# Altium integrated library Microchip SST Flash.IntLib: 291 symbols (part 26 of 37)
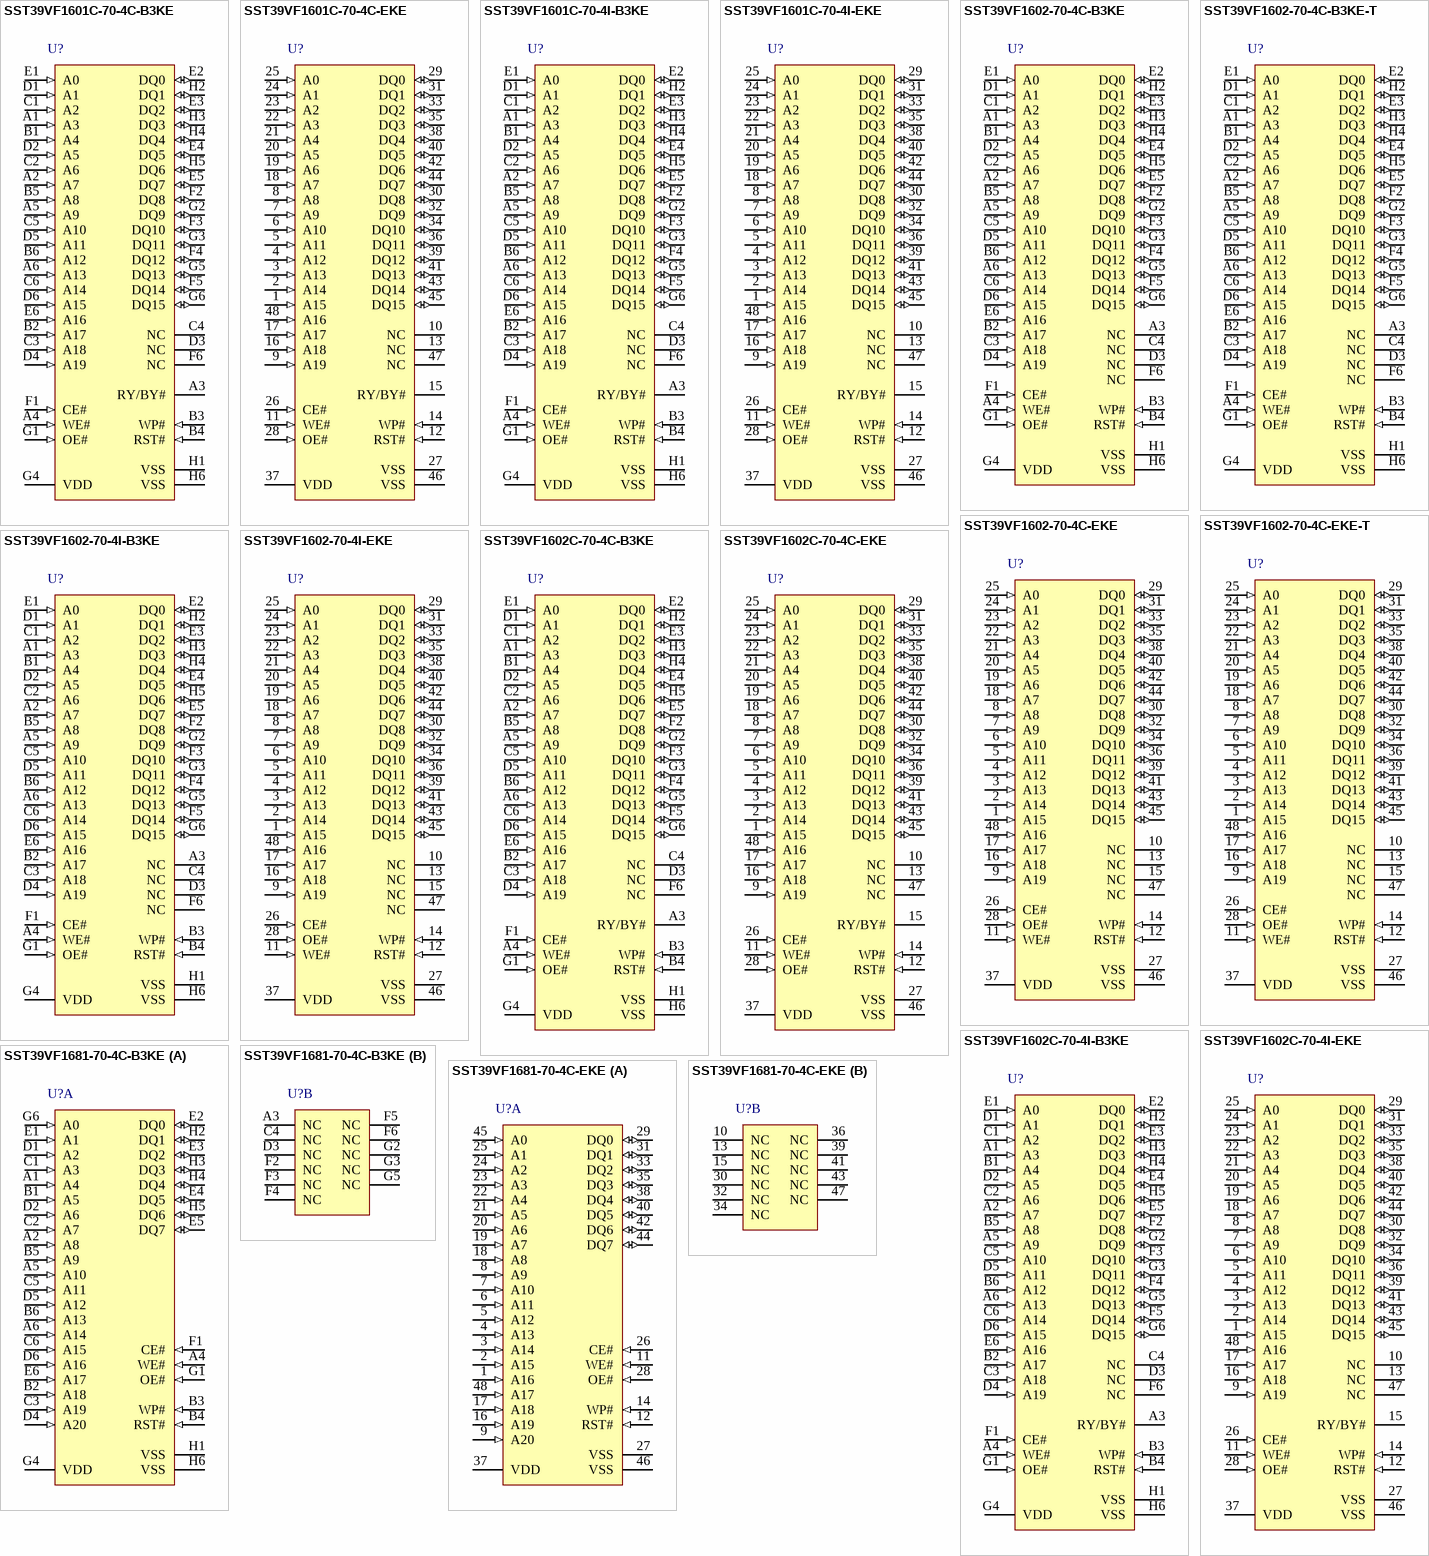
[diagram p40: symbols SST39VF1601C-70-4C-B3KE to SST39VF1681-70-4C-EKE]

## SST39VF1602-70-4I-B3KE
designator U?
16 Mbit Multi-Purpose Flash Plus, 2.7 to 3.6 V, -40 to 85 degC, 48-pin TFBGA (B3K48), Tray; Manufacturer: Microchip; PartNumber: SST39VF1602-70-4I-B3KE; DatasheetVersion: DS25028A; PackageVersion: Rev. A; PackageReference: TFBGA-B3K48; PackageDescription: 48-Ball Thin-Profile, Fine-Pitch Ball Grid Array, 8 x 6 mm Body, 0.8 mm Pitch; Supplier 1: Digi-Key; Supplier Part Number 1: SST39VF1602-70-4I-B3KE-ND; Mounting Technology: Surface Mount; Code_JEDEC: MO-210; ComponentLink1Description: Manufacturer URL; ComponentLink1URL: http://www.microchip.com; ComponentLink2Description: Datasheet; ComponentLink2URL: http://ww1.microchip.com/downloads/en/DeviceDoc/25028A.pdf; ComponentLink3Description: Package Specification; ComponentLink3URL: http://www.microchip.com/stellent/groups/techpub_sg/documents/packagingspec/en012702.pdf; ComponentLink4Description: Product URL; ComponentLink4URL: http://www.microchip.com/SST39VF1602
footprint MCHP-TFBGA-B3K48 (BGA, 48-Balls, Body 8x6mm, Pitch 0.8mm)
pins: A1 A3 (in) "To provide memory addresses. During Sector-Erase AMS-A11 address lines will select the sector. During Block-Erase AMS-A15 address lines will select the block.", A2 A7 (in) "To provide memory addresses. During Sector-Erase AMS-A11 address lines will select the sector. During Block-Erase AMS-A15 address lines will select the block.", A3 NC "Unconnected pins.", A4 WE# (in) "To control the Write operations.", A5 A9 (in) "To provide memory addresses. During Sector-Erase AMS-A11 address lines will select the sector. During Block-Erase AMS-A15 address lines will select the block.", A6 A13 (in) "To provide memory addresses. During Sector-Erase AMS-A11 address lines will select the sector. During Block-Erase AMS-A15 address lines will select the block.", B1 A4 (in) "To provide memory addresses. During Sector-Erase AMS-A11 address lines will select the sector. During Block-Erase AMS-A15 address lines will select the block.", B2 A17 (in) "To provide memory addresses. During Sector-Erase AMS-A11 address lines will select the sector. During Block-Erase AMS-A15 address lines will select the block.", B3 WP# (in) "To protect the top/bottom boot block from Erase/Program operation when grounded.", B4 RST# (in) "To reset and return the device to Read mode.", B5 A8 (in) "To provide memory addresses. During Sector-Erase AMS-A11 address lines will select the sector. During Block-Erase AMS-A15 address lines will select the block.", B6 A12 (in) "To provide memory addresses. During Sector-Erase AMS-A11 address lines will select the sector. During Block-Erase AMS-A15 address lines will select the block.", C1 A2 (in) "To provide memory addresses. During Sector-Erase AMS-A11 address lines will select the sector. During Block-Erase AMS-A15 address lines will select the block.", C2 A6 (in) "To provide memory addresses. During Sector-Erase AMS-A11 address lines will select the sector. During Block-Erase AMS-A15 address lines will select the block.", C3 A18 (in) "To provide memory addresses. During Sector-Erase AMS-A11 address lines will select the sector. During Block-Erase AMS-A15 address lines will select the block.", C4 NC "Unconnected pins.", C5 A10 (in) "To provide memory addresses. During Sector-Erase AMS-A11 address lines will select the sector. During Block-Erase AMS-A15 address lines will select the block.", C6 A14 (in) "To provide memory addresses. During Sector-Erase AMS-A11 address lines will select the sector. During Block-Erase AMS-A15 address lines will select the block.", D1 A1 (in) "To provide memory addresses. During Sector-Erase AMS-A11 address lines will select the sector. During Block-Erase AMS-A15 address lines will select the block.", D2 A5 (in) "To provide memory addresses. During Sector-Erase AMS-A11 address lines will select the sector. During Block-Erase AMS-A15 address lines will select the block.", D3 NC "Unconnected pins.", D4 A19 (in) "To provide memory addresses. During Sector-Erase AMS-A11 address lines will select the sector. During Block-Erase AMS-A15 address lines will select the block.", D5 A11 (in) "To provide memory addresses. During Sector-Erase AMS-A11 address lines will select the sector. During Block-Erase AMS-A15 address lines will select the block.", D6 A15 (in) "To provide memory addresses. During Sector-Erase AMS-A11 address lines will select the sector. During Block-Erase AMS-A15 address lines will select the block.", E1 A0 (in) "To provide memory addresses. During Sector-Erase AMS-A11 address lines will select the sector. During Block-Erase AMS-A15 address lines will select the block.", E2 DQ0 (io) "To output data during Read cycles and receive input data during Write cycles.Data is internally latched during a Write cycle. The outputs are in tri-state when OE# or CE# is high.", E3 DQ2 (io) "To output data during Read cycles and receive input data during Write cycles.Data is internally latched during a Write cycle. The outputs are in tri-state when OE# or CE# is high.", E4 DQ5 (io) "To output data during Read cycles and receive input data during Write cycles.Data is internally latched during a Write cycle. The outputs are in tri-state when OE# or CE# is high.", E5 DQ7 (io) "To output data during Read cycles and receive input data during Write cycles.Data is internally latched during a Write cycle. The outputs are in tri-state when OE# or CE# is high.", E6 A16 (in) "To provide memory addresses. During Sector-Erase AMS-A11 address lines will select the sector. During Block-Erase AMS-A15 address lines will select the block.", F1 CE# (in) "To activate the device when CE# is low.", F2 DQ8 (io) "To output data during Read cycles and receive input data during Write cycles.Data is internally latched during a Write cycle. The outputs are in tri-state when OE# or CE# is high.", F3 DQ10 (io) "To output data during Read cycles and receive input data during Write cycles.Data is internally latched during a Write cycle. The outputs are in tri-state when OE# or CE# is high.", F4 DQ12 (io) "To output data during Read cycles and receive input data during Write cycles.Data is internally latched during a Write cycle. The outputs are in tri-state when OE# or CE# is high.", F5 DQ14 (io) "To output data during Read cycles and receive input data during Write cycles.Data is internally latched during a Write cycle. The outputs are in tri-state when OE# or CE# is high.", F6 NC "Unconnected pins.", G1 OE# (in) "To gate the data output buffers.", G2 DQ9 (io) "To output data during Read cycles and receive input data during Write cycles.Data is internally latched during a Write cycle. The outputs are in tri-state when OE# or CE# is high.", G3 DQ11 (io) "To output data during Read cycles and receive input data during Write cycles.Data is internally latched during a Write cycle. The outputs are in tri-state when OE# or CE# is high.", G4 VDD (power) "To provide power supply voltage: SST39WF160X(1.65-1.95V),SST39VF160X(2.7-3.6V)", G5 DQ13 (io) "To output data during Read cycles and receive input data during Write cycles.Data is internally latched during a Write cycle. The outputs are in tri-state when OE# or CE# is high.", G6 DQ15 (io) "To output data during Read cycles and receive input data during Write cycles.Data is internally latched during a Write cycle. The outputs are in tri-state when OE# or CE# is high.", H1 VSS (power), H2 DQ1 (io) "To output data during Read cycles and receive input data during Write cycles.Data is internally latched during a Write cycle. The outputs are in tri-state when OE# or CE# is high.", H3 DQ3 (io) "To output data during Read cycles and receive input data during Write cycles.Data is internally latched during a Write cycle. The outputs are in tri-state when OE# or CE# is high.", H4 DQ4 (io) "To output data during Read cycles and receive input data during Write cycles.Data is internally latched during a Write cycle. The outputs are in tri-state when OE# or CE# is high.", H5 DQ6 (io) "To output data during Read cycles and receive input data during Write cycles.Data is internally latched during a Write cycle. The outputs are in tri-state when OE# or CE# is high.", H6 VSS (power)

## SST39VF1602-70-4I-EKE
designator U?
16 Mbit Multi-Purpose Flash Plus, 2.7 to 3.6 V, -40 to 85 degC, 48-pin TSOP (EK48), Tray; Manufacturer: Microchip; PartNumber: SST39VF1602-70-4I-EKE; DatasheetVersion: DS25028A; PackageVersion: Rev. A; PackageReference: TSOP-EK48; PackageDescription: 48-Lead Thin Small Outline Package, 18.4 x 12 mm Body, 0.5 mm Pitch; Supplier 1: Digi-Key; Supplier Part Number 1: SST39VF1602-70-4I-EKE-ND; Mounting Technology: Surface Mount; Code_JEDEC: MO-142; ComponentLink1Description: Manufacturer URL; ComponentLink1URL: http://www.microchip.com; ComponentLink2Description: Datasheet; ComponentLink2URL: http://ww1.microchip.com/downloads/en/DeviceDoc/25028A.pdf; ComponentLink3Description: Package Specification; ComponentLink3URL: http://ww1.microchip.com/downloads/en/DeviceDoc/25008A.pdf; ComponentLink4Description: Product URL; ComponentLink4URL: http://www.microchip.com/SST39VF1602
footprint MCHP-TSOP-EK48_N (SOP, 48-Leads, Body 18.4x12mm, Pitch 0.5mm, IPC Medium Density,)
footprint MCHP-TSOP-EK48_L (SOP, 48-Leads, Body 18.4x12mm, Pitch 0.5mm, IPC High Density)
footprint MCHP-TSOP-EK48_M (SOP, 48-Leads, Body 18.4x12mm, Pitch 0.5mm, IPC Low Density,)
pins: 1 A15 (in) "To provide memory addresses. During Sector-Erase AMS-A11 address lines will select the sector. During Block-Erase AMS-A15 address lines will select the block.", 2 A14 (in) "To provide memory addresses. During Sector-Erase AMS-A11 address lines will select the sector. During Block-Erase AMS-A15 address lines will select the block.", 3 A13 (in) "To provide memory addresses. During Sector-Erase AMS-A11 address lines will select the sector. During Block-Erase AMS-A15 address lines will select the block.", 4 A12 (in) "To provide memory addresses. During Sector-Erase AMS-A11 address lines will select the sector. During Block-Erase AMS-A15 address lines will select the block.", 5 A11 (in) "To provide memory addresses. During Sector-Erase AMS-A11 address lines will select the sector. During Block-Erase AMS-A15 address lines will select the block.", 6 A10 (in) "To provide memory addresses. During Sector-Erase AMS-A11 address lines will select the sector. During Block-Erase AMS-A15 address lines will select the block.", 7 A9 (in) "To provide memory addresses. During Sector-Erase AMS-A11 address lines will select the sector. During Block-Erase AMS-A15 address lines will select the block.", 8 A8 (in) "To provide memory addresses. During Sector-Erase AMS-A11 address lines will select the sector. During Block-Erase AMS-A15 address lines will select the block.", 9 A19 (in) "To provide memory addresses. During Sector-Erase AMS-A11 address lines will select the sector. During Block-Erase AMS-A15 address lines will select the block.", 10 NC "Unconnected pins.", 11 WE# (in) "To control the Write operations.", 12 RST# (in) "To reset and return the device to Read mode.", 13 NC "Unconnected pins.", 14 WP# (in) "To protect the top/bottom boot block from Erase/Program operation when grounded.", 15 NC "Unconnected pins.", 16 A18 (in) "To provide memory addresses. During Sector-Erase AMS-A11 address lines will select the sector. During Block-Erase AMS-A15 address lines will select the block.", 17 A17 (in) "To provide memory addresses. During Sector-Erase AMS-A11 address lines will select the sector. During Block-Erase AMS-A15 address lines will select the block.", 18 A7 (in) "To provide memory addresses. During Sector-Erase AMS-A11 address lines will select the sector. During Block-Erase AMS-A15 address lines will select the block.", 19 A6 (in) "To provide memory addresses. During Sector-Erase AMS-A11 address lines will select the sector. During Block-Erase AMS-A15 address lines will select the block.", 20 A5 (in) "To provide memory addresses. During Sector-Erase AMS-A11 address lines will select the sector. During Block-Erase AMS-A15 address lines will select the block.", 21 A4 (in) "To provide memory addresses. During Sector-Erase AMS-A11 address lines will select the sector. During Block-Erase AMS-A15 address lines will select the block.", 22 A3 (in) "To provide memory addresses. During Sector-Erase AMS-A11 address lines will select the sector. During Block-Erase AMS-A15 address lines will select the block.", 23 A2 (in) "To provide memory addresses. During Sector-Erase AMS-A11 address lines will select the sector. During Block-Erase AMS-A15 address lines will select the block.", 24 A1 (in) "To provide memory addresses. During Sector-Erase AMS-A11 address lines will select the sector. During Block-Erase AMS-A15 address lines will select the block.", 25 A0 (in) "To provide memory addresses. During Sector-Erase AMS-A11 address lines will select the sector. During Block-Erase AMS-A15 address lines will select the block.", 26 CE# (in) "To activate the device when CE# is low.", 27 VSS (power), 28 OE# (in) "To gate the data output buffers.", 29 DQ0 (io) "To output data during Read cycles and receive input data during Write cycles.Data is internally latched during a Write cycle. The outputs are in tri-state when OE# or CE# is high.", 30 DQ8 (io) "To output data during Read cycles and receive input data during Write cycles.Data is internally latched during a Write cycle. The outputs are in tri-state when OE# or CE# is high.", 31 DQ1 (io) "To output data during Read cycles and receive input data during Write cycles.Data is internally latched during a Write cycle. The outputs are in tri-state when OE# or CE# is high.", 32 DQ9 (io) "To output data during Read cycles and receive input data during Write cycles.Data is internally latched during a Write cycle. The outputs are in tri-state when OE# or CE# is high.", 33 DQ2 (io) "To output data during Read cycles and receive input data during Write cycles.Data is internally latched during a Write cycle. The outputs are in tri-state when OE# or CE# is high.", 34 DQ10 (io) "To output data during Read cycles and receive input data during Write cycles.Data is internally latched during a Write cycle. The outputs are in tri-state when OE# or CE# is high.", 35 DQ3 (io) "To output data during Read cycles and receive input data during Write cycles.Data is internally latched during a Write cycle. The outputs are in tri-state when OE# or CE# is high.", 36 DQ11 (io) "To output data during Read cycles and receive input data during Write cycles.Data is internally latched during a Write cycle. The outputs are in tri-state when OE# or CE# is high.", 37 VDD (power) "To provide power supply voltage: 2.7-3.6V", 38 DQ4 (io) "To output data during Read cycles and receive input data during Write cycles.Data is internally latched during a Write cycle. The outputs are in tri-state when OE# or CE# is high.", 39 DQ12 (io) "To output data during Read cycles and receive input data during Write cycles.Data is internally latched during a Write cycle. The outputs are in tri-state when OE# or CE# is high.", 40 DQ5 (io) "To output data during Read cycles and receive input data during Write cycles.Data is internally latched during a Write cycle. The outputs are in tri-state when OE# or CE# is high.", 41 DQ13 (io) "To output data during Read cycles and receive input data during Write cycles.Data is internally latched during a Write cycle. The outputs are in tri-state when OE# or CE# is high.", 42 DQ6 (io) "To output data during Read cycles and receive input data during Write cycles.Data is internally latched during a Write cycle. The outputs are in tri-state when OE# or CE# is high.", 43 DQ14 (io) "To output data during Read cycles and receive input data during Write cycles.Data is internally latched during a Write cycle. The outputs are in tri-state when OE# or CE# is high.", 44 DQ7 (io) "To output data during Read cycles and receive input data during Write cycles.Data is internally latched during a Write cycle. The outputs are in tri-state when OE# or CE# is high.", 45 DQ15 (io) "To output data during Read cycles and receive input data during Write cycles.Data is internally latched during a Write cycle. The outputs are in tri-state when OE# or CE# is high.", 46 VSS (power) "Ground", 47 NC "Unconnected pins.", 48 A16 (in) "To provide memory addresses.During Sector-Erase AMS-A11 address lines will select the sector.During Block-Erase AMS-A15 address lines will select the block."

## SST39VF1602C-70-4C-B3KE
designator U?
16 Mbit Multi-Purpose Flash Plus, 2.7 to 3.6 V, 0 to 70 degC, 48-pin TFBGA (B3K48), Tray; Manufacturer: Microchip; PartNumber: SST39VF1602C-70-4C-B3KE; DatasheetVersion: Rev. A; PackageVersion: Rev. A; PackageReference: TFBGA-B3K48; PackageDescription: 48-Ball Thin-Profile, Fine-Pitch Ball Grid Array, 8 x 6 mm Body, 0.8 mm Pitch; Supplier 1: Digi-Key; Supplier Part Number 1: SST39VF1602C-70-4C-B3KE-ND; Mounting Technology: Surface Mount; Code_JEDEC: MO-210; ComponentLink1Description: Manufacturer URL; ComponentLink1URL: http://www.microchip.com; ComponentLink2Description: Datasheet; ComponentLink2URL: http://ww1.microchip.com/downloads/en/DeviceDoc/25018A.pdf; ComponentLink3Description: Package Specification; ComponentLink3URL: http://www.microchip.com/stellent/groups/techpub_sg/documents/packagingspec/en012702.pdf; ComponentLink4Description: Product URL; ComponentLink4URL: http://www.microchip.com/SST39VF1602C
footprint MCHP-TFBGA-B3K48 (BGA, 48-Balls, Body 8x6mm, Pitch 0.8mm)
pins: A1 A3 (in) "To provide memory addresses.During Sector-Erase AMS-A11 address lines will select the sector. During Block-Erase AMS-A15 address lines will select the block.", A2 A7 (in) "To provide memory addresses.During Sector-Erase AMS-A11 address lines will select the sector. During Block-Erase AMS-A15 address lines will select the block.", A3 RY/BY# (oc) "To output the status of a Program or Erase operation RY/BY# is a open drain output, so a 10Kohm-100Kohm pull-up resistor is required to allow RY/BY# to transition high indicating the device is ready to read.", A4 WE# (in) "To control the Write operations.", A5 A9 (in) "To provide memory addresses.During Sector-Erase AMS-A11 address lines will select the sector. During Block-Erase AMS-A15 address lines will select the block.", A6 A13 (in) "To provide memory addresses.During Sector-Erase AMS-A11 address lines will select the sector. During Block-Erase AMS-A15 address lines will select the block.", B1 A4 (in) "To provide memory addresses.During Sector-Erase AMS-A11 address lines will select the sector. During Block-Erase AMS-A15 address lines will select the block.", B2 A17 (in) "To provide memory addresses.During Sector-Erase AMS-A11 address lines will select the sector. During Block-Erase AMS-A15 address lines will select the block.", B3 WP# (in) "To protect the top/bottom boot block from Erase/Program operation when grounded.", B4 RST# (in) "To reset and return the device to Read mode.", B5 A8 (in) "To provide memory addresses.During Sector-Erase AMS-A11 address lines will select the sector. During Block-Erase AMS-A15 address lines will select the block.", B6 A12 (in) "To provide memory addresses.During Sector-Erase AMS-A11 address lines will select the sector. During Block-Erase AMS-A15 address lines will select the block.", C1 A2 (in) "To provide memory addresses.During Sector-Erase AMS-A11 address lines will select the sector. During Block-Erase AMS-A15 address lines will select the block.", C2 A6 (in) "To provide memory addresses.During Sector-Erase AMS-A11 address lines will select the sector. During Block-Erase AMS-A15 address lines will select the block.", C3 A18 (in) "To provide memory addresses.During Sector-Erase AMS-A11 address lines will select the sector. During Block-Erase AMS-A15 address lines will select the block.", C4 NC "Unconnected pins.", C5 A10 (in) "To provide memory addresses.During Sector-Erase AMS-A11 address lines will select the sector. During Block-Erase AMS-A15 address lines will select the block.", C6 A14 (in) "To provide memory addresses.During Sector-Erase AMS-A11 address lines will select the sector. During Block-Erase AMS-A15 address lines will select the block.", D1 A1 (in) "To provide memory addresses.During Sector-Erase AMS-A11 address lines will select the sector. During Block-Erase AMS-A15 address lines will select the block.", D2 A5 (in) "To provide memory addresses.During Sector-Erase AMS-A11 address lines will select the sector. During Block-Erase AMS-A15 address lines will select the block.", D3 NC "Unconnected pins.", D4 A19 (in) "To provide memory addresses.During Sector-Erase AMS-A11 address lines will select the sector. During Block-Erase AMS-A15 address lines will select the block.", D5 A11 (in) "To provide memory addresses.During Sector-Erase AMS-A11 address lines will select the sector. During Block-Erase AMS-A15 address lines will select the block.", D6 A15 (in) "To provide memory addresses.During Sector-Erase AMS-A11 address lines will select the sector. During Block-Erase AMS-A15 address lines will select the block.", E1 A0 (in) "To provide memory addresses.During Sector-Erase AMS-A11 address lines will select the sector. During Block-Erase AMS-A15 address lines will select the block.", E2 DQ0 (io) "To output data during Read cycles and receive input data during Write cycles. Data is internally latched during a Write cycle. The outputs are in tri-state when OE# or CE# is high.", E3 DQ2 (io) "To output data during Read cycles and receive input data during Write cycles. Data is internally latched during a Write cycle. The outputs are in tri-state when OE# or CE# is high.", E4 DQ5 (io) "To output data during Read cycles and receive input data during Write cycles. Data is internally latched during a Write cycle. The outputs are in tri-state when OE# or CE# is high.", E5 DQ7 (io) "To output data during Read cycles and receive input data during Write cycles. Data is internally latched during a Write cycle. The outputs are in tri-state when OE# or CE# is high.", E6 A16 (in) "To provide memory addresses.During Sector-Erase AMS-A11 address lines will select the sector. During Block-Erase AMS-A15 address lines will select the block.", F1 CE# (in) "To activate the device when CE# is low.", F2 DQ8 (io) "To output data during Read cycles and receive input data during Write cycles. Data is internally latched during a Write cycle. The outputs are in tri-state when OE# or CE# is high.", F3 DQ10 (io) "To output data during Read cycles and receive input data during Write cycles. Data is internally latched during a Write cycle. The outputs are in tri-state when OE# or CE# is high.", F4 DQ12 (io) "To output data during Read cycles and receive input data during Write cycles. Data is internally latched during a Write cycle. The outputs are in tri-state when OE# or CE# is high.", F5 DQ14 (io) "To output data during Read cycles and receive input data during Write cycles. Data is internally latched during a Write cycle. The outputs are in tri-state when OE# or CE# is high.", F6 NC "Unconnected pins.", G1 OE# (in) "To gate the data output buffers.", G2 DQ9 (io) "To output data during Read cycles and receive input data during Write cycles. Data is internally latched during a Write cycle. The outputs are in tri-state when OE# or CE# is high.", G3 DQ11 (io) "To output data during Read cycles and receive input data during Write cycles. Data is internally latched during a Write cycle. The outputs are in tri-state when OE# or CE# is high.", G4 VDD (power) "To provide power supply voltage: 2.7-3.6V", G5 DQ13 (io) "To output data during Read cycles and receive input data during Write cycles. Data is internally latched during a Write cycle. The outputs are in tri-state when OE# or CE# is high.", G6 DQ15 (io) "To output data during Read cycles and receive input data during Write cycles. Data is internally latched during a Write cycle. The outputs are in tri-state when OE# or CE# is high.", H1 VSS (power), H2 DQ1 (io) "To output data during Read cycles and receive input data during Write cycles. Data is internally latched during a Write cycle. The outputs are in tri-state when OE# or CE# is high.", H3 DQ3 (io) "To output data during Read cycles and receive input data during Write cycles. Data is internally latched during a Write cycle. The outputs are in tri-state when OE# or CE# is high.", H4 DQ4 (io) "To output data during Read cycles and receive input data during Write cycles. Data is internally latched during a Write cycle. The outputs are in tri-state when OE# or CE# is high.", H5 DQ6 (io) "To output data during Read cycles and receive input data during Write cycles. Data is internally latched during a Write cycle. The outputs are in tri-state when OE# or CE# is high.", H6 VSS (power)

## SST39VF1602C-70-4C-EKE
designator U?
16 Mbit Multi-Purpose Flash Plus, 2.7 to 3.6 V, 0 to 70 degC, 48-pin TSOP (EK48), Tray; Manufacturer: Microchip; PartNumber: SST39VF1602C-70-4C-EKE; DatasheetVersion: Rev. A; PackageVersion: Rev. A; PackageReference: TSOP-EK48; PackageDescription: 48-Lead Thin Small Outline Package, 18.4 x 12 mm Body, 0.5 mm Pitch; Supplier 1: Digi-Key; Supplier Part Number 1: SST39VF1602C-70-4C-EKE-ND; Mounting Technology: Surface Mount; Code_JEDEC: MO-142; ComponentLink1Description: Manufacturer URL; ComponentLink1URL: http://www.microchip.com; ComponentLink2Description: Datasheet; ComponentLink2URL: http://ww1.microchip.com/downloads/en/DeviceDoc/25018A.pdf; ComponentLink3Description: Package Specification; ComponentLink3URL: http://ww1.microchip.com/downloads/en/DeviceDoc/25008A.pdf; ComponentLink4Description: Product URL; ComponentLink4URL: http://www.microchip.com/SST39VF1602C
footprint MCHP-TSOP-EK48_N (SOP, 48-Leads, Body 18.4x12mm, Pitch 0.5mm, IPC Medium Density,)
footprint MCHP-TSOP-EK48_L (SOP, 48-Leads, Body 18.4x12mm, Pitch 0.5mm, IPC High Density)
footprint MCHP-TSOP-EK48_M (SOP, 48-Leads, Body 18.4x12mm, Pitch 0.5mm, IPC Low Density,)
pins: 1 A15 (in) "To provide memory addresses.During Sector-Erase AMS-A11 address lines will select the sector.During Block-Erase AMS-A15 address lines will select the block.", 2 A14 (in) "To provide memory addresses.During Sector-Erase AMS-A11 address lines will select the sector.During Block-Erase AMS-A15 address lines will select the block.", 3 A13 (in) "To provide memory addresses.During Sector-Erase AMS-A11 address lines will select the sector.During Block-Erase AMS-A15 address lines will select the block.", 4 A12 (in) "To provide memory addresses.During Sector-Erase AMS-A11 address lines will select the sector.During Block-Erase AMS-A15 address lines will select the block.", 5 A11 (in) "To provide memory addresses.During Sector-Erase AMS-A11 address lines will select the sector.During Block-Erase AMS-A15 address lines will select the block.", 6 A10 (in) "To provide memory addresses.During Sector-Erase AMS-A11 address lines will select the sector.During Block-Erase AMS-A15 address lines will select the block.", 7 A9 (in) "To provide memory addresses.During Sector-Erase AMS-A11 address lines will select the sector.During Block-Erase AMS-A15 address lines will select the block.", 8 A8 (in) "To provide memory addresses.During Sector-Erase AMS-A11 address lines will select the sector.During Block-Erase AMS-A15 address lines will select the block.", 9 A19 (in) "To provide memory addresses.During Sector-Erase AMS-A11 address lines will select the sector.During Block-Erase AMS-A15 address lines will select the block.", 10 NC "Unconnected pins.", 11 WE# (in) "To control the Write operations.", 12 RST# (in) "To reset and return the device to Read mode.", 13 NC "Unconnected pins.", 14 WP# (in) "To protect the top/bottom boot block from Erase/Program operation when grounded.", 15 RY/BY# (oc) "To output the status of a Program or Erase operation RY/BY# is a open drain output, so a 10K ohm - 100K ohm pull-up resistor is required to allow RY/BY# to transition high indicating the device is ready to read.", 16 A18 (in) "To provide memory addresses.During Sector-Erase AMS-A11 address lines will select the sector.During Block-Erase AMS-A15 address lines will select the block.", 17 A17 (in) "To provide memory addresses.During Sector-Erase AMS-A11 address lines will select the sector.During Block-Erase AMS-A15 address lines will select the block.", 18 A7 (in) "To provide memory addresses.During Sector-Erase AMS-A11 address lines will select the sector.During Block-Erase AMS-A15 address lines will select the block.", 19 A6 (in) "To provide memory addresses.During Sector-Erase AMS-A11 address lines will select the sector.During Block-Erase AMS-A15 address lines will select the block.", 20 A5 (in) "To provide memory addresses.During Sector-Erase AMS-A11 address lines will select the sector.During Block-Erase AMS-A15 address lines will select the block.", 21 A4 (in) "To provide memory addresses.During Sector-Erase AMS-A11 address lines will select the sector.During Block-Erase AMS-A15 address lines will select the block.", 22 A3 (in) "To provide memory addresses.During Sector-Erase AMS-A11 address lines will select the sector.During Block-Erase AMS-A15 address lines will select the block.", 23 A2 (in) "To provide memory addresses.During Sector-Erase AMS-A11 address lines will select the sector.During Block-Erase AMS-A15 address lines will select the block.", 24 A1 (in) "To provide memory addresses.During Sector-Erase AMS-A11 address lines will select the sector.During Block-Erase AMS-A15 address lines will select the block.", 25 A0 (in) "To provide memory addresses.During Sector-Erase AMS-A11 address lines will select the sector.During Block-Erase AMS-A15 address lines will select the block.", 26 CE# (in) "To activate the device when CE# is low.", 27 VSS (power), 28 OE# (in) "To gate the data output buffers.", 29 DQ0 (io) "To output data during Read cycles and receive input data during Write cycles.Data is internally latched during a Write cycle. The outputs are in tri-state when OE# or CE# is high.", 30 DQ8 (io) "To output data during Read cycles and receive input data during Write cycles.Data is internally latched during a Write cycle. The outputs are in tri-state when OE# or CE# is high.", 31 DQ1 (io) "To output data during Read cycles and receive input data during Write cycles.Data is internally latched during a Write cycle. The outputs are in tri-state when OE# or CE# is high.", 32 DQ9 (io) "To output data during Read cycles and receive input data during Write cycles.Data is internally latched during a Write cycle. The outputs are in tri-state when OE# or CE# is high.", 33 DQ2 (io) "To output data during Read cycles and receive input data during Write cycles.Data is internally latched during a Write cycle. The outputs are in tri-state when OE# or CE# is high.", 34 DQ10 (io) "To output data during Read cycles and receive input data during Write cycles.Data is internally latched during a Write cycle. The outputs are in tri-state when OE# or CE# is high.", 35 DQ3 (io) "To output data during Read cycles and receive input data during Write cycles.Data is internally latched during a Write cycle. The outputs are in tri-state when OE# or CE# is high.", 36 DQ11 (io) "To output data during Read cycles and receive input data during Write cycles.Data is internally latched during a Write cycle. The outputs are in tri-state when OE# or CE# is high.", 37 VDD (power) "To provide power supply voltage: 2.7-3.6V", 38 DQ4 (io) "To output data during Read cycles and receive input data during Write cycles.Data is internally latched during a Write cycle. The outputs are in tri-state when OE# or CE# is high.", 39 DQ12 (io) "To output data during Read cycles and receive input data during Write cycles.Data is internally latched during a Write cycle. The outputs are in tri-state when OE# or CE# is high.", 40 DQ5 (io) "To output data during Read cycles and receive input data during Write cycles.Data is internally latched during a Write cycle. The outputs are in tri-state when OE# or CE# is high.", 41 DQ13 (io) "To output data during Read cycles and receive input data during Write cycles.Data is internally latched during a Write cycle. The outputs are in tri-state when OE# or CE# is high.", 42 DQ6 (io) "To output data during Read cycles and receive input data during Write cycles.Data is internally latched during a Write cycle. The outputs are in tri-state when OE# or CE# is high.", 43 DQ14 (io) "To output data during Read cycles and receive input data during Write cycles.Data is internally latched during a Write cycle. The outputs are in tri-state when OE# or CE# is high.", 44 DQ7 (io) "To output data during Read cycles and receive input data during Write cycles.Data is internally latched during a Write cycle. The outputs are in tri-state when OE# or CE# is high.", 45 DQ15 (io) "To output data during Read cycles and receive input data during Write cycles.Data is internally latched during a Write cycle. The outputs are in tri-state when OE# or CE# is high.", 46 VSS (power), 47 NC "Unconnected pins.", 48 A16 (in) "To provide memory addresses.During Sector-Erase AMS-A11 address lines will select the sector.During Block-Erase AMS-A15 address lines will select the block."

## SST39VF1602C-70-4I-B3KE
designator U?
16 Mbit Multi-Purpose Flash Plus, 2.7 to 3.6 V, -40 to 85 degC, 48-pin TFBGA (B3K48), Tray; Manufacturer: Microchip; PartNumber: SST39VF1602C-70-4I-B3KE; DatasheetVersion: Rev. A; PackageVersion: Rev. A; PackageReference: TFBGA-B3K48; PackageDescription: 48-Ball Thin-Profile, Fine-Pitch Ball Grid Array, 8 x 6 mm Body, 0.8 mm Pitch; Supplier 1: Digi-Key; Supplier Part Number 1: SST39VF1602C-70-4I-B3KE-ND; Mounting Technology: Surface Mount; Code_JEDEC: MO-210; ComponentLink1Description: Manufacturer URL; ComponentLink1URL: http://www.microchip.com; ComponentLink2Description: Datasheet; ComponentLink2URL: http://ww1.microchip.com/downloads/en/DeviceDoc/25018A.pdf; ComponentLink3Description: Package Specification; ComponentLink3URL: http://www.microchip.com/stellent/groups/techpub_sg/documents/packagingspec/en012702.pdf; ComponentLink4Description: Product URL; ComponentLink4URL: http://www.microchip.com/SST39VF1602C
footprint MCHP-TFBGA-B3K48 (BGA, 48-Balls, Body 8x6mm, Pitch 0.8mm)
pins: A1 A3 (in) "To provide memory addresses.During Sector-Erase AMS-A11 address lines will select the sector. During Block-Erase AMS-A15 address lines will select the block.", A2 A7 (in) "To provide memory addresses.During Sector-Erase AMS-A11 address lines will select the sector. During Block-Erase AMS-A15 address lines will select the block.", A3 RY/BY# (oc) "To output the status of a Program or Erase operation RY/BY# is a open drain output, so a 10Kohm-100Kohm pull-up resistor is required to allow RY/BY# to transition high indicating the device is ready to read.", A4 WE# (in) "To control the Write operations.", A5 A9 (in) "To provide memory addresses.During Sector-Erase AMS-A11 address lines will select the sector. During Block-Erase AMS-A15 address lines will select the block.", A6 A13 (in) "To provide memory addresses.During Sector-Erase AMS-A11 address lines will select the sector. During Block-Erase AMS-A15 address lines will select the block.", B1 A4 (in) "To provide memory addresses.During Sector-Erase AMS-A11 address lines will select the sector. During Block-Erase AMS-A15 address lines will select the block.", B2 A17 (in) "To provide memory addresses.During Sector-Erase AMS-A11 address lines will select the sector. During Block-Erase AMS-A15 address lines will select the block.", B3 WP# (in) "To protect the top/bottom boot block from Erase/Program operation when grounded.", B4 RST# (in) "To reset and return the device to Read mode.", B5 A8 (in) "To provide memory addresses.During Sector-Erase AMS-A11 address lines will select the sector. During Block-Erase AMS-A15 address lines will select the block.", B6 A12 (in) "To provide memory addresses.During Sector-Erase AMS-A11 address lines will select the sector. During Block-Erase AMS-A15 address lines will select the block.", C1 A2 (in) "To provide memory addresses.During Sector-Erase AMS-A11 address lines will select the sector. During Block-Erase AMS-A15 address lines will select the block.", C2 A6 (in) "To provide memory addresses.During Sector-Erase AMS-A11 address lines will select the sector. During Block-Erase AMS-A15 address lines will select the block.", C3 A18 (in) "To provide memory addresses.During Sector-Erase AMS-A11 address lines will select the sector. During Block-Erase AMS-A15 address lines will select the block.", C4 NC "Unconnected pins.", C5 A10 (in) "To provide memory addresses.During Sector-Erase AMS-A11 address lines will select the sector. During Block-Erase AMS-A15 address lines will select the block.", C6 A14 (in) "To provide memory addresses.During Sector-Erase AMS-A11 address lines will select the sector. During Block-Erase AMS-A15 address lines will select the block.", D1 A1 (in) "To provide memory addresses.During Sector-Erase AMS-A11 address lines will select the sector. During Block-Erase AMS-A15 address lines will select the block.", D2 A5 (in) "To provide memory addresses.During Sector-Erase AMS-A11 address lines will select the sector. During Block-Erase AMS-A15 address lines will select the block.", D3 NC "Unconnected pins.", D4 A19 (in) "To provide memory addresses.During Sector-Erase AMS-A11 address lines will select the sector. During Block-Erase AMS-A15 address lines will select the block.", D5 A11 (in) "To provide memory addresses.During Sector-Erase AMS-A11 address lines will select the sector. During Block-Erase AMS-A15 address lines will select the block.", D6 A15 (in) "To provide memory addresses.During Sector-Erase AMS-A11 address lines will select the sector. During Block-Erase AMS-A15 address lines will select the block.", E1 A0 (in) "To provide memory addresses.During Sector-Erase AMS-A11 address lines will select the sector. During Block-Erase AMS-A15 address lines will select the block.", E2 DQ0 (io) "To output data during Read cycles and receive input data during Write cycles. Data is internally latched during a Write cycle. The outputs are in tri-state when OE# or CE# is high.", E3 DQ2 (io) "To output data during Read cycles and receive input data during Write cycles. Data is internally latched during a Write cycle. The outputs are in tri-state when OE# or CE# is high.", E4 DQ5 (io) "To output data during Read cycles and receive input data during Write cycles. Data is internally latched during a Write cycle. The outputs are in tri-state when OE# or CE# is high.", E5 DQ7 (io) "To output data during Read cycles and receive input data during Write cycles. Data is internally latched during a Write cycle. The outputs are in tri-state when OE# or CE# is high.", E6 A16 (in) "To provide memory addresses.During Sector-Erase AMS-A11 address lines will select the sector. During Block-Erase AMS-A15 address lines will select the block.", F1 CE# (in) "To activate the device when CE# is low.", F2 DQ8 (io) "To output data during Read cycles and receive input data during Write cycles. Data is internally latched during a Write cycle. The outputs are in tri-state when OE# or CE# is high.", F3 DQ10 (io) "To output data during Read cycles and receive input data during Write cycles. Data is internally latched during a Write cycle. The outputs are in tri-state when OE# or CE# is high.", F4 DQ12 (io) "To output data during Read cycles and receive input data during Write cycles. Data is internally latched during a Write cycle. The outputs are in tri-state when OE# or CE# is high.", F5 DQ14 (io) "To output data during Read cycles and receive input data during Write cycles. Data is internally latched during a Write cycle. The outputs are in tri-state when OE# or CE# is high.", F6 NC "Unconnected pins.", G1 OE# (in) "To gate the data output buffers.", G2 DQ9 (io) "To output data during Read cycles and receive input data during Write cycles. Data is internally latched during a Write cycle. The outputs are in tri-state when OE# or CE# is high.", G3 DQ11 (io) "To output data during Read cycles and receive input data during Write cycles. Data is internally latched during a Write cycle. The outputs are in tri-state when OE# or CE# is high.", G4 VDD (power) "To provide power supply voltage: 2.7-3.6V", G5 DQ13 (io) "To output data during Read cycles and receive input data during Write cycles. Data is internally latched during a Write cycle. The outputs are in tri-state when OE# or CE# is high.", G6 DQ15 (io) "To output data during Read cycles and receive input data during Write cycles. Data is internally latched during a Write cycle. The outputs are in tri-state when OE# or CE# is high.", H1 VSS (power), H2 DQ1 (io) "To output data during Read cycles and receive input data during Write cycles. Data is internally latched during a Write cycle. The outputs are in tri-state when OE# or CE# is high.", H3 DQ3 (io) "To output data during Read cycles and receive input data during Write cycles. Data is internally latched during a Write cycle. The outputs are in tri-state when OE# or CE# is high.", H4 DQ4 (io) "To output data during Read cycles and receive input data during Write cycles. Data is internally latched during a Write cycle. The outputs are in tri-state when OE# or CE# is high.", H5 DQ6 (io) "To output data during Read cycles and receive input data during Write cycles. Data is internally latched during a Write cycle. The outputs are in tri-state when OE# or CE# is high.", H6 VSS (power)